# Altium footprint library Magway.PcbLib: 38 footprints (part 3 of 3)
Each footprint in its own frame and in the unit in brackets; x right, y up, seen from the top. Pads: shape width x height; smd on the part's side, far side on the other; paste and mask are expansions set on the pad; w line width, h text height; cw(c..) or ccw(c..) is an arc to the next point about the centre after c.
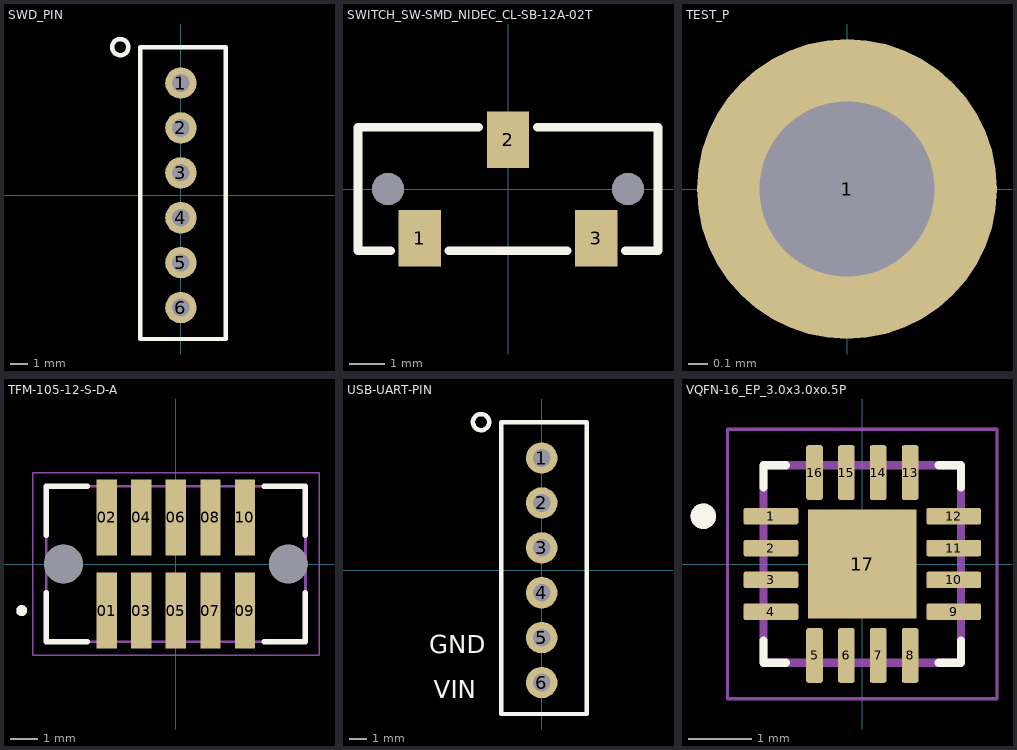
[diagram p2: the footprints below, top view; thin cyan lines are the x and y axes]

## SWD_PIN [mil]
pads (6):
  round 70 hole 39.37: 1(0,250) 2(0,150) 3(0,50) 4(0,-50) 5(0,-150) 6(0,-250)
Top Overlay:
  circle w10: c-135,330 r18.03
  lines w10: -90,-320 -90,330 100,330 100,260 100,-320 -90,-320

## SWITCH_SW-SMD_NIDEC_CL-SB-12A-02T [mm]
pads (5):
  rect 1.2x1.6 smd: 1(-2.5,-1.4) 2(0,1.4) 3(2.5,-1.4)
  round 0.9 hole 0.9 unplated: ""(-3.4,0) ""(3.4,0)
Top Overlay:
  lines w0.254: -3.331,-1.75 -4.25,-1.75 -4.25,1.75 -0.831,1.75 ; -1.669,-1.75 1.669,-1.75 ; 0.831,1.75 4.25,1.75 4.25,-1.75 3.331,-1.75

## TEST_P [mil]
pads (1):
  round 60 hole 35: 1(0,0)

## TFM-105-12-S-D-A [mm]
pads (12):
  rect 0.74x2.79 smd: 01(-2.54,-1.715) 02(-2.54,1.715) 03(-1.27,-1.715) 04(-1.27,1.715) 05(0,-1.715) 06(0,1.715) 07(1.27,-1.715) 08(1.27,1.715) 09(2.54,-1.715) 10(2.54,1.715)
  round 1.42 hole 1.42 unplated: ""(-4.13,0) ""(4.13,0)
Top Overlay:
  circle w0.2: c-5.665,-1.715 r0.1
  lines w0.2: -4.765,-1.064 -4.765,-2.86 -3.26,-2.86 ; -4.765,1.064 -4.765,2.86 -3.26,2.86 ; 3.26,-2.86 4.765,-2.86 4.765,-1.064 ; 3.26,2.86 4.765,2.86 4.765,1.064
Mechanical 13:
  circle w0.2: c-5.665,-1.715 r0.1
  lines w0.1: -4.765,-2.86 -4.765,2.86 ; -4.765,-2.86 4.765,-2.86 ; -4.765,-2.86 -4.765,2.86 ; -4.765,2.86 4.765,2.86 ; -4.765,2.86 4.765,2.86 ; 4.765,-2.86 4.765,2.86 ; 4.765,-2.86 4.765,2.86
Mechanical 15:
  lines w0.05: -5.265,-3.36 5.265,-3.36 5.265,3.36 -5.265,3.36 -5.265,-3.36

## USB-UART-PIN [mil]
pads (6):
  round 70 hole 39.37: 1(0,250) 2(0,150) 3(0,50) 4(0,-50) 5(0,-150) 6(0,-250)
Top Overlay:
  circle w10: c-135,330 r18.03
  lines w10: -90,-320 100,-320 100,260 100,330 -90,330 -90,-320
  text "GND" at -250,-185 h40
  text "VIN" at -240,-285 h40

## VQFN-16_EP_3.0x3.0xo.5P [mm]
pads (17):
  rrect25% 0.86x0.26 smd: 1(-1.435,0.75) 2(-1.435,0.25) 3(-1.435,-0.25) 4(-1.435,-0.75) 9(1.435,-0.75) 10(1.435,-0.25) 11(1.435,0.25) 12(1.435,0.75)
  rrect25% 0.26x0.86 smd: 5(-0.75,-1.435) 6(-0.25,-1.435) 7(0.25,-1.435) 8(0.75,-1.435) 13(0.75,1.435) 14(0.25,1.435) 15(-0.25,1.435) 16(-0.75,1.435)
  rect 1.71x1.71 smd paste-2: 17(0,0)
Top Overlay:
  circle w0.2: c-2.495,0.75 r0.1
  lines w0.127: -1.55,-1.2 -1.55,-1.55 -1.2,-1.55 ; -1.55,1.2 -1.55,1.55 -1.2,1.55 ; 1.2,-1.55 1.55,-1.55 1.55,-1.2 ; 1.2,1.55 1.55,1.55 1.55,1.2
Top Paste:
  region: 0.54,-0.54 -0.54,-0.54 -0.54,0.54 0.54,0.54
Mechanical 13:
  circle w0.2: c-2.495,0.75 r0.1
  lines w0.127: -1.55,-1.55 -1.55,1.55 1.55,1.55 1.55,-1.55 -1.55,-1.55
Mechanical 15:
  lines w0.05: -2.115,-2.115 -2.115,2.115 2.115,2.115 2.115,-2.115 -2.115,-2.115
3D body "MLX90393SLW-ABA-011-RE.stp": height 1, standoff 0, extent -1.55,-1.55 1.55,1.55